# Altium integrated library EL3H7_TA_-VG.IntLib: 1 symbol
Pins are listed as number, name and electrical type; pins without a type are passive.

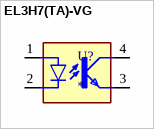
[diagram p0: symbol EL3H7(TA)-VG]

## EL3H7(TA)-VG
designator U?
Optoisolator Transistor Output 3750Vrms 1 Channel 4-SSOP; MF: Everlight Electronics; MP: EL3H7(TA)-VG; SnapEDA_Link: https://www.snapeda.com/parts/EL3H7(TA)-VG/Everlight/view-part/?ref=snap; Package: SSOP-4 Everlight; Value: *; Check_prices: https://www.snapeda.com/parts/EL3H7(TA)-VG/Everlight/view-part/?ref=eda
footprint SOIC127P700X200-4N
pins: 1 A, 2 C, 3 EMIT, 4 COL